# Altium footprint library 2019-03-05_00-52-59.PcbLib: 1 footprints
Each footprint in its own frame and in the unit in brackets; x right, y up, seen from the top. Pads: shape width x height; smd on the part's side, far side on the other; paste and mask are expansions set on the pad; w line width, h text height; cw(c..) or ccw(c..) is an arc to the next point about the centre after c.
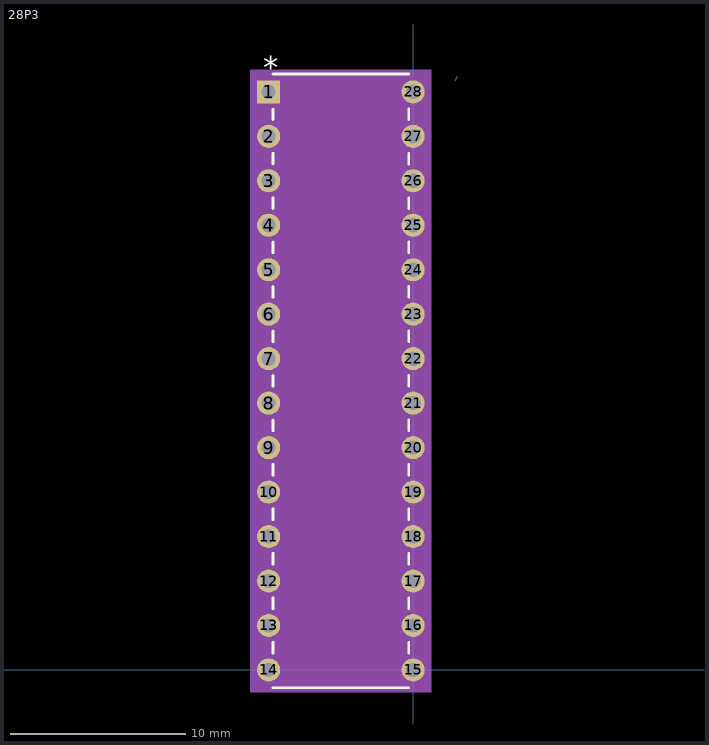
[diagram p0: the footprint, top view; thin cyan lines are the x and y axes]

## 28P3 [mil]
pads (28):
  rect 52x52 hole 32 mask+0: 1(-325,1300)
  round 52 hole 32 mask+0: 2(-325,1200) 3(-325,1100) 4(-325,1000) 5(-325,900) 6(-325,800) 7(-325,700) 8(-325,600) 9(-325,500) 10(-325,400) 11(-325,300) 12(-325,200) 13(-325,100) 14(-325,0) 15(0,0) 16(0,100) 17(0,200) 18(0,300) 19(0,400) 20(0,500) 21(0,600) 22(0,700) 23(0,800) 24(0,900) 25(0,1000) 26(0,1100) 27(0,1200) 28(0,1300)
Top Overlay:
  lines w6: -315,-40 -10,-40 ; -315,37.8 -315,62.2 ; -315,137.8 -315,162.2 ; -315,237.8 -315,262.2 ; -315,337.8 -315,362.2 ; -315,437.8 -315,462.2 ; -315,537.8 -315,562.2 ; -315,637.8 -315,662.2 ; -315,737.8 -315,762.2 ; -315,837.8 -315,862.2 ; -315,937.8 -315,962.2 ; -315,1037.8 -315,1062.2 ; -315,1137.8 -315,1162.2 ; -315,1237.8 -315,1260.9 ; -315,1340 -10,1340 ; -10,37.8 -10,62.2 ; -10,137.8 -10,162.2 ; -10,237.8 -10,262.2 ; -10,337.8 -10,362.2 ; -10,437.8 -10,462.2 ; -10,537.8 -10,562.2 ; -10,637.8 -10,662.2 ; -10,737.8 -10,762.2 ; -10,837.8 -10,862.2 ; -10,937.8 -10,962.2 ; -10,1037.8 -10,1062.2 ; -10,1137.8 -10,1162.2 ; -10,1237.8 -10,1262.2
  text "*" at -337.5,1331 h50
Mechanical 5:
  region: 41,-50 -366,-50 -366,1350 41,1350
Mechanical 7:
  lines w1: 95,1325 100,1335
Mechanical 13:
  lines w0: -174.5,1335 ccw(c-162.5,1335) -150.5,1335
  lines w1: -341,-16 -310,-16 -310,16 -341,16 -341,-16 ; -341,84 -310,84 -310,116 -341,116 -341,84 ; -341,184 -310,184 -310,216 -341,216 -341,184 ; -341,284 -310,284 -310,316 -341,316 -341,284 ; -341,384 -310,384 -310,416 -341,416 -341,384 ; -341,484 -310,484 -310,516 -341,516 -341,484 ; -341,584 -310,584 -310,616 -341,616 -341,584 ; -341,684 -310,684 -310,716 -341,716 -341,684 ; -341,784 -310,784 -310,816 -341,816 -341,784 ; -341,884 -310,884 -310,916 -341,916 -341,884 ; -341,984 -310,984 -310,1016 -341,1016 -341,984 ; -341,1084 -310,1084 -310,1116 -341,1116 -341,1084 ; -341,1184 -310,1184 -310,1216 -341,1216 -341,1184 ; -341,1284 -310,1284 -310,1316 -341,1316 -341,1284 ; -310,-35 -310,1335 -15,1335 -15,-35 -310,-35 ; -15,-16 16,-16 16,16 -15,16 -15,-16 ; -15,84 16,84 16,116 -15,116 -15,84 ; -15,184 16,184 16,216 -15,216 -15,184 ; -15,284 16,284 16,316 -15,316 -15,284 ; -15,384 16,384 16,416 -15,416 -15,384 ; -15,484 16,484 16,516 -15,516 -15,484 ; -15,584 16,584 16,616 -15,616 -15,584 ; -15,684 16,684 16,716 -15,716 -15,684 ; -15,784 16,784 16,816 -15,816 -15,784 ; -15,884 16,884 16,916 -15,916 -15,884 ; -15,984 16,984 16,1016 -15,1016 -15,984 ; -15,1084 16,1084 16,1116 -15,1116 -15,1084 ; -15,1184 16,1184 16,1216 -15,1216 -15,1184 ; -15,1284 16,1284 16,1316 -15,1316 -15,1284
  text "*" at -312.5,1275 h50
Mechanical 15:
  region: -5,-32 36,-32 36,1332 -5,1332 -5,1345 -320,1345 -320,1332 -361,1332 -361,-32 -320,-32 -320,-45 -5,-45
  lines w6: -361,-32 -320,-32 -320,-45 -5,-45 -5,-32 36,-32 36,1332 -5,1332 -5,1345 -320,1345 -320,1332 -361,1332 -361,-32
3D body: height 10, standoff 0, extent 0,0 10,10